# EAGLE library part FH19*C-5S-0.5SH (library CON-FFC)
CONN FFC BOTTOM 5POS 0.50MM R/A Datasheet <https://www.hirose.com/product/en/download_file/key_name/FH19C__FH19SC/category/Catalog/doc_file_id/31611/?file_category_id=4&item_id=62&is_series=1>
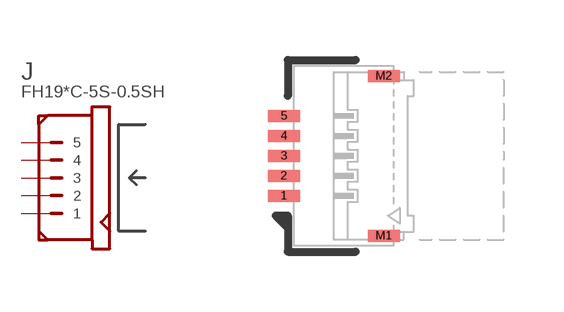
[diagram p2: symbol with the pads of FH19*C-5S-0.5SH; footprint FH19*C-5S-0.5SH]

Designator prefix J

## FH19C-5S-0.5SH (MFPN: FH19C-5S-0.5SH; PARTNO: 29-100863-00)  [FH19*C-5S-0.5SH]
1  1  pas
2  2  pas
3  3  pas
4  4  pas
5  5  pas
M1  MT1  pas
M2  MT2  pas

## Footprint FH19*C-5S-0.5SH (pad centres in mm)
CONN FFC BOTTOM 5POS 0.50MM R/A Datasheet <https://www.hirose.com/product/en/download_file/key_name/FH19C__FH19SC/category/Catalog/doc_file_id/31611/?file_category_id=4&item_id=62&is_series=1>
smd 0.8 x 0.3: 1 -1.5,-1; 2 -1.5,-0.5; 3 -1.5,0; 4 -1.5,0.5; 5 -1.5,1; M1 1,-2; M2 1,2